# Altium footprint library TU.PcbLib: 1 footprints
Each footprint in its own frame and in the unit in brackets; x right, y up, seen from the top. Pads: shape width x height; smd on the part's side, far side on the other; paste and mask are expansions set on the pad; w line width, h text height; cw(c..) or ccw(c..) is an arc to the next point about the centre after c.
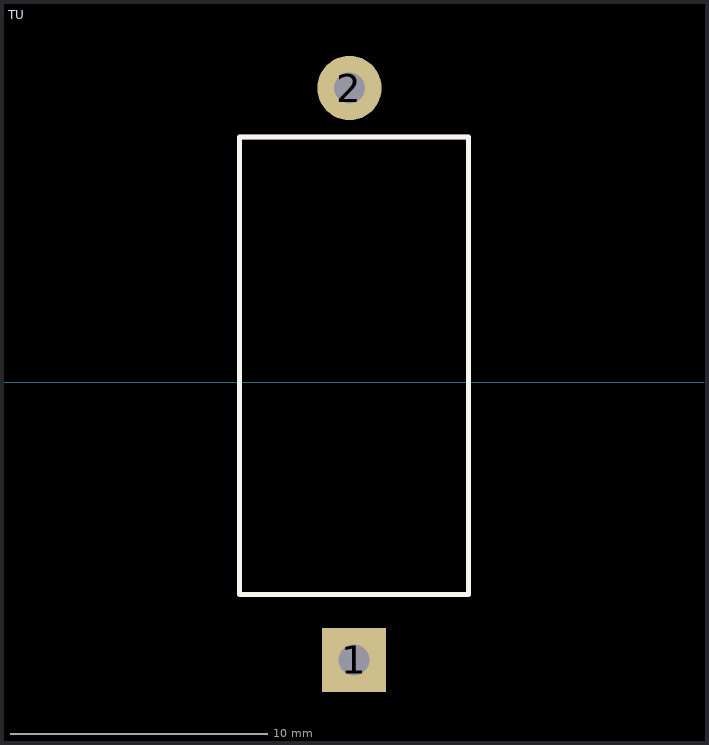
[diagram p0: the footprint, top view; thin cyan lines are the x and y axes]

## TU [mm]
pads (2):
  rect 2.5x2.5 hole 1.2: 1(14.146,-10.787)
  round 2.5 hole 1.2: 2(13.97,11.43)
Top Overlay:
  lines w0.203: 9.701,-8.247 18.591,-8.247 18.591,9.525 9.701,9.525 9.701,-8.247
Mechanical 1:
  lines w0.203: 9.701,-8.247 18.591,-8.247 18.591,9.525 9.701,9.525 9.701,-8.247